# Altium footprint library CONTROLLER_PCB_LIB.PcbLib: 18 footprints (part 2 of 2)
Each footprint in its own frame and in the unit in brackets; x right, y up, seen from the top. Pads: shape width x height; smd on the part's side, far side on the other; paste and mask are expansions set on the pad; w line width, h text height; cw(c..) or ccw(c..) is an arc to the next point about the centre after c.
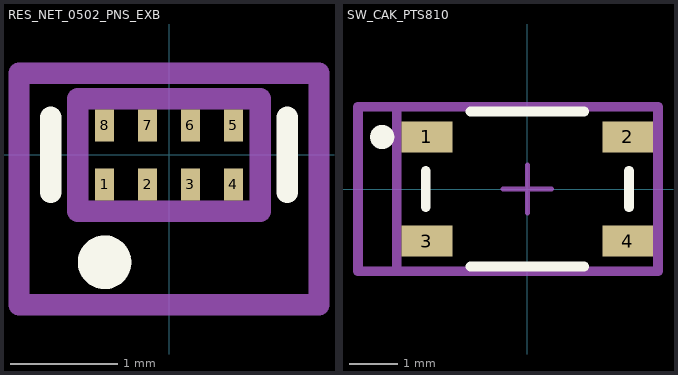
[diagram p1: the footprints below, top view; thin cyan lines are the x and y axes]

## RES_NET_0502_PNS_EXB [mm] "Resistor Network"
height 0.35
pads (8):
  rect 0.175x0.3 smd paste+0 mask+0: 1(-0.6,-0.275) 2(-0.2,-0.275) 3(0.2,-0.275) 4(0.6,-0.275) 5(0.6,0.275) 6(0.2,0.275) 7(-0.2,0.275) 8(-0.6,0.275)
Top Overlay:
  circle w0.25: c-0.6,-1 r0.125
  lines w0.2: -1.1,-0.35 -1.1,0.35 ; 1.1,-0.35 1.1,0.35
Mechanical 5:
  lines w0.2: -0.85,-0.525 -0.85,0.525 0.85,0.525 0.85,-0.525 -0.85,-0.525
  text ".Designator" at 0,0.187 h1
Mechanical 15:
  lines w0.2: -1.397,-1.397 -1.397,0.762 1.397,0.762 1.397,-1.397 -1.397,-1.397
3D body "Res_Panasonic_Electronic_Components_EXB-18VR000X_eec.STEP": height 0.25, standoff 0, extent -0.85,-0.525 0.85,0.525

## SW_CAK_PTS810 [mm] "Switch"
height 2.5
pads (4):
  rect 1.05x0.65 smd paste+0 mask+0: 1(-2.075,1.075) 2(2.075,1.075) 3(-2.075,-1.075) 4(2.075,-1.075)
Top Overlay:
  circle w0.25: c-3,1.075 r0.125
  lines w0.2: -2.1,-0.375 -2.1,0.375 ; -1.175,-1.6 1.175,-1.6 ; -1.175,1.6 1.175,1.6 ; 2.1,-0.375 2.1,0.375
Mechanical 5:
  lines w0.2: -2.7,-1.7 2.7,-1.7 2.7,1.7 -2.7,1.7 -2.7,-1.7
  text ".Designator" at 0,0.187 h1
Mechanical 15:
  lines w0.2: -3.5,-1.7 2.7,-1.7 2.7,1.7 -3.5,1.7 -3.5,-1.7
Mechanical 16:
  lines w0.1: -0.5,0 0.5,0 ; 0,-0.5 0,0.5
3D body "Switch_C&K_Components_PTS810SJM250SMTRLFS_eec.STEP": height 0.25, standoff 0, extent -2.7,-1.7 2.7,1.7